# EAGLE library part WE-FLEXHV_ER11/5 (library Wurth_Power Magnetics_WE-FLEX HV)
WE-FLEX HV Flexible Transformer for DC/DC Converter Characteristics Transformer with 6 identical windings 4 sizes with 5 different lengths of air gap each Isolation voltage up to 1.5 kVAC Low leakage inductance Operating temperature: –40 ºC to +125 ºC By using different circuits more than 375 transformer solutions and about 125 choke solutions possible. Consequently, quick prototyping possibilities EFD size parts provide Basic insulation for a working voltage of 250VRMS when they are connteced approbiate Applications Flyback converters Forward converters Push-pull converters Step-up/step-down converters SEPIC <https://katalog.we-online.com/media/images/v2/o97648v209%20Family_WE-FLEX_HV_749196xxx_4C_NEU.jpg> Details see: https://katalog.we-online.com/en/pbs/WE-FLEXHV#vs_ct:3 Updated by Yingchun Shan 2019-08-19 20179(C) Wurth Elektronik
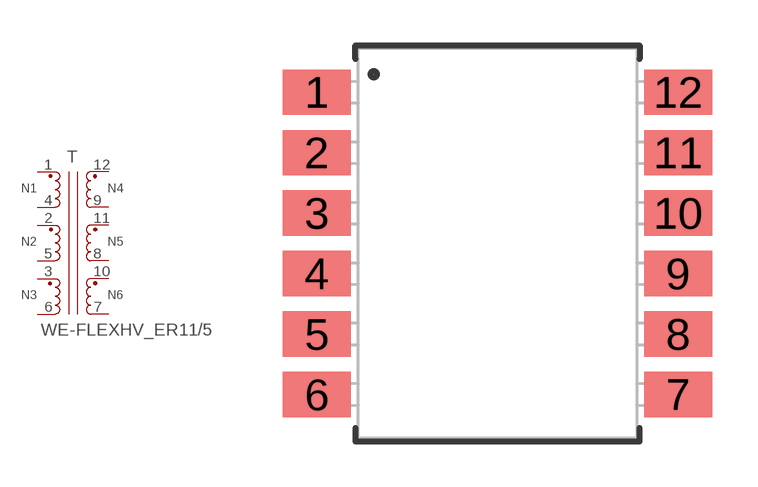
[diagram p3: symbol with the pads of WE-FLEXHV_ER11/5; footprint WE-FLEXHV_ER11/5]

Designator prefix T

## WE-FLEXHV_ER11/5_749196108 (DATASHEET-URL: https://katalog.we-online.com/pbs/datasheet/749196108.pdf; IRBASE: 0.5A; ISATBASE: 0.04A; LSBASE: 0.3uH; N: 1:1:1:1:1:1; PART-NUMBER: 749196108; RDCBASE: 344mOhm; VALUE: 224.6uH; VOLTAGE-USECONDBASE: 49.3uVs), WE-FLEXHV_ER11/5_749196118 (DATASHEET-URL: https://katalog.we-online.com/pbs/datasheet/749196118.pdf; IRBASE: 0.5A; ISATBASE: 0.29A; LSBASE: 0.3uH; N: 1:1:1:1:1:1; PART-NUMBER: 749196118; RDCBASE: 344mOhm; VALUE: 27.4uH; VOLTAGE-USECONDBASE: 49.3uVs), WE-FLEXHV_ER11/5_749196128 (DATASHEET-URL: https://katalog.we-online.com/pbs/datasheet/749196128.pdf; IRBASE: 0.5A; ISATBASE: 0.55A; LSBASE: 0.3uH; N: 1:1:1:1:1:1; PART-NUMBER: 749196128; RDCBASE: 344mOhm; VALUE: 14.7uH; VOLTAGE-USECONDBASE: 49.3uVs), WE-FLEXHV_ER11/5_749196138 (DATASHEET-URL: https://katalog.we-online.com/pbs/datasheet/749196138.pdf; IRBASE: 0.5A; ISATBASE: 0.8A; LSBASE: 0.3uH; N: 1:1:1:1:1:1; PART-NUMBER: 749196138; RDCBASE: 344mOhm; VALUE: 10.9uH; VOLTAGE-USECONDBASE: 49.3uVs), WE-FLEXHV_ER11/5_749196148 (DATASHEET-URL: https://katalog.we-online.com/pbs/datasheet/749196148.pdf; IRBASE: 0.5A; ISATBASE: 1.02A; LSBASE: 0.3uH; N: 1:1:1:1:1:1; PART-NUMBER: 749196148; RDCBASE: 344mOhm; VALUE: 8.5uH; VOLTAGE-USECONDBASE: 49.3uVs)  [WE-FLEXHV_ER11/5]
1  1  pas
2  3  pas
3  5  pas
4  2  pas
5  4  pas
6  6  pas
7  7  pas
8  9  pas
9  11  pas
10  8  pas
11  10  pas
12  12  pas

## Footprint WE-FLEXHV_ER11/5 (pad centres in mm)
WE-FLEX HV Flexible Transformer for DC/DC Converter Size: ER11/5 SMD 12Pin
smd 2.25 x 1.5: 1 -5.975,5; 2 -5.975,3; 3 -5.975,1; 4 -5.975,-1; 5 -5.975,-3; 6 -5.975,-5; 7 5.975,-5; 8 5.975,-3; 9 5.975,-1; 10 5.975,1; 11 5.975,3; 12 5.975,5